# Altium schematic symbol library Schlib1.SchLib: 2 symbols
Pins are listed as number, name and electrical type; pins without a type are passive.

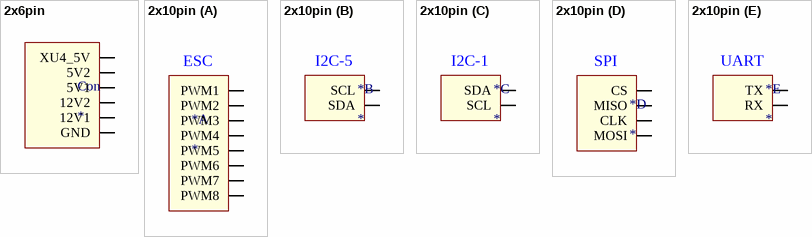
[diagram p0: symbols 2x6pin to 2x10pin]

## 2x6pin
designator Con
footprint 2x6pin
pins: 1 XU4_5V, 2 5V2, 3 5V1, 4 12V2, 5 12V1, 6 GND

## 2x10pin
designator *
footprint 2x10pin
part A pins: 1 PWM1, 2 PWM2, 3 PWM3, 4 PWM4, 5 PWM5, 6 PWM6, 7 PWM7, 8 PWM8
part B pins: 11 SCL, 12 SDA
part C pins: 13 SDA, 14 SCL
part D pins: 15 CS, 16 MISO, 17 CLK, 18 MOSI
part E pins: 19 TX, 20 RX
part A text: ESC
part B text: I2C-5
part C text: I2C-1
part D text: SPI
part E text: UART